# EAGLE library part ADSP_BF537 (library analog-devices-3)
ADSP-BF534-BSDL_br.txt.bsdl Auto generated by make-symbol-device-package-bsdl.ulp Rev. 8 Source: http://www.analog.com/UploadedFiles/Data_Sheets/90140778ADSP_BF536_7_prd.pdf Source2: BSDL_br.txt as Email: <adi-germany@analog.com>
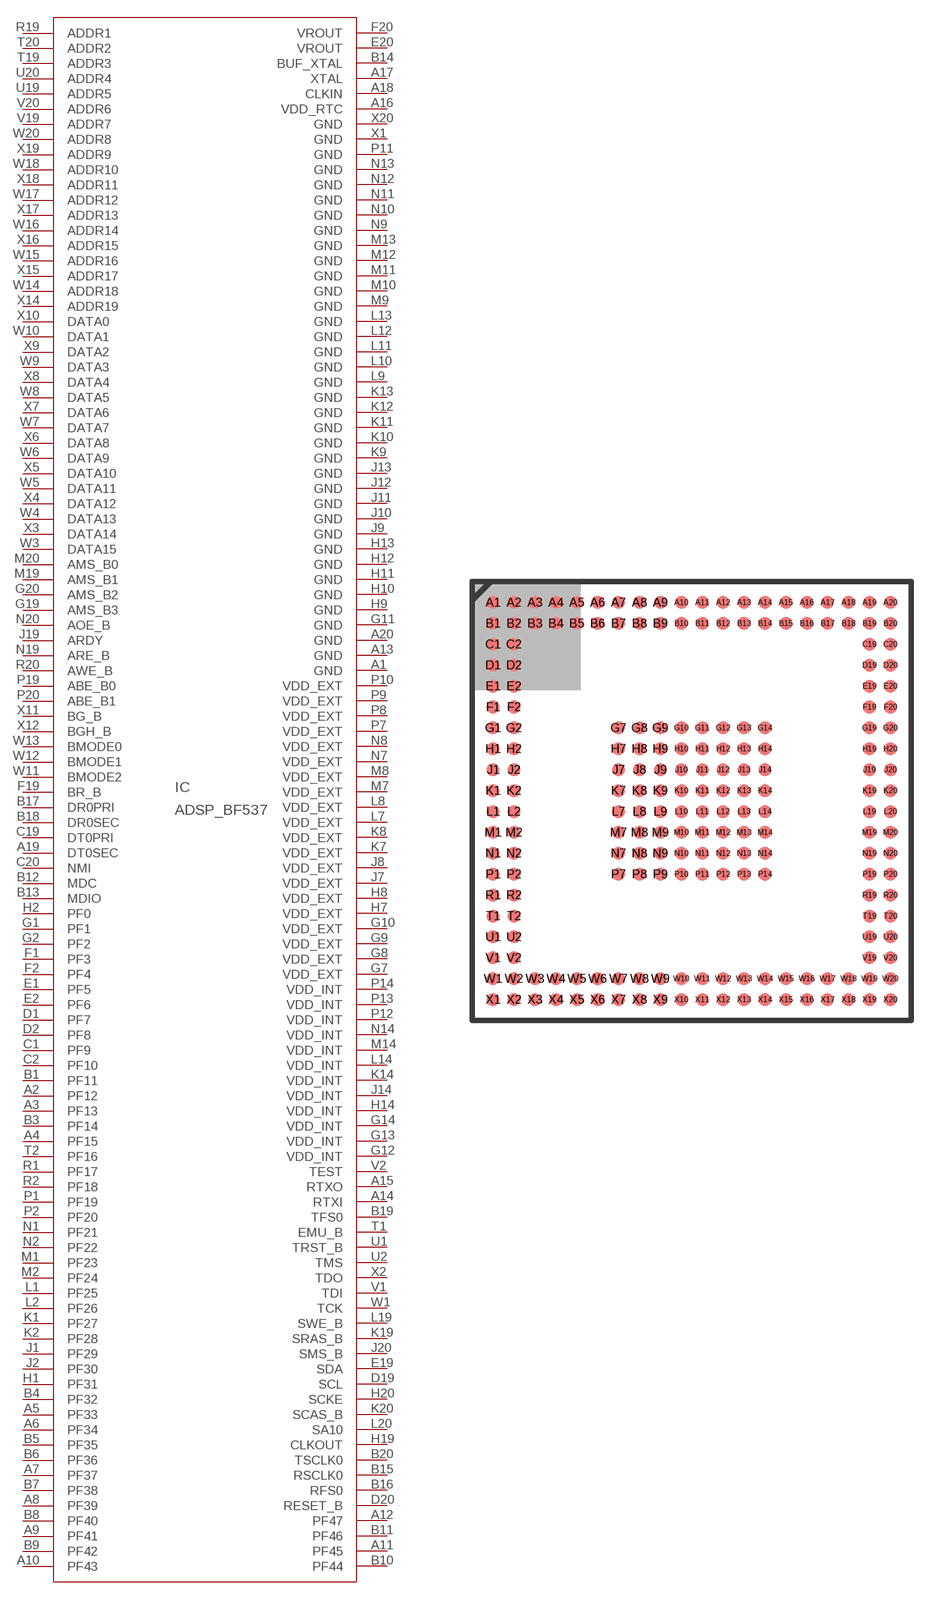
[diagram p31: symbol with the pads of BGA_208; footprint BGA_208]

Designator prefix IC

## ADSP_BF537  [BGA_208]
A1  GND  pwr
A2  PF12
A3  PF13
A4  PF15
A5  PF33
A6  PF34
A7  PF37
A8  PF39
A9  PF41
A10  PF43
A11  PF45
A12  PF47
A13  GND  pwr
A14  RTXI  pwr
A15  RTXO  pwr
A16  VDD_RTC  pwr
A17  XTAL  pwr
A18  CLKIN  pwr
A19  DT0SEC
A20  GND  pwr
B1  PF11
B3  PF14
B4  PF32
B5  PF35
B6  PF36
B7  PF38
B8  PF40
B9  PF42
B10  PF44
B11  PF46
B12  MDC
B13  MDIO
B14  BUF_XTAL  pwr
B15  RSCLK0
B16  RFS0
B17  DR0PRI
B18  DR0SEC
B19  TFS0
B20  TSCLK0
C1  PF9
C2  PF10
C19  DT0PRI
C20  NMI  in
D1  PF7
D2  PF8
D19  SCL
D20  RESET_B  in
E1  PF5
E2  PF6
E19  SDA
E20  VROUT  pwr
F1  PF3
F2  PF4
F19  BR_B  in
F20  VROUT  pwr
G1  PF1
G2  PF2
G7  VDD_EXT  pwr
G8  VDD_EXT  pwr
G9  VDD_EXT  pwr
G10  VDD_EXT  pwr
G11  GND  pwr
G12  VDD_INT  pwr
G13  VDD_INT  pwr
G14  VDD_INT  pwr
G19  AMS_B3  out
G20  AMS_B2  out
H1  PF31
H2  PF0
H7  VDD_EXT  pwr
H8  VDD_EXT  pwr
H9  GND  pwr
H10  GND  pwr
H11  GND  pwr
H12  GND  pwr
H13  GND  pwr
H14  VDD_INT  pwr
H19  CLKOUT  out
H20  SCKE  out
J1  PF29
J2  PF30
J7  VDD_EXT  pwr
J8  VDD_EXT  pwr
J9  GND  pwr
J10  GND  pwr
J11  GND  pwr
J12  GND  pwr
J13  GND  pwr
J14  VDD_INT  pwr
J19  ARDY  in
J20  SMS_B  out
K1  PF27
K2  PF28
K7  VDD_EXT  pwr
K8  VDD_EXT  pwr
K9  GND  pwr
K10  GND  pwr
K11  GND  pwr
K12  GND  pwr
K13  GND  pwr
K14  VDD_INT  pwr
K19  SRAS_B  out
K20  SCAS_B  out
L1  PF25
L2  PF26
L7  VDD_EXT  pwr
L8  VDD_EXT  pwr
L9  GND  pwr
L10  GND  pwr
L11  GND  pwr
L12  GND  pwr
L13  GND  pwr
L14  VDD_INT  pwr
L19  SWE_B  out
L20  SA10  out
M1  PF23
M2  PF24
M7  VDD_EXT  pwr
M8  VDD_EXT  pwr
M9  GND  pwr
M10  GND  pwr
M11  GND  pwr
M12  GND  pwr
M13  GND  pwr
M14  VDD_INT  pwr
M19  AMS_B1  out
M20  AMS_B0  out
N1  PF21
N2  PF22
N7  VDD_EXT  pwr
N8  VDD_EXT  pwr
N9  GND  pwr
N10  GND  pwr
N11  GND  pwr
N12  GND  pwr
N13  GND  pwr
N14  VDD_INT  pwr
N19  ARE_B  out
N20  AOE_B  out
P1  PF19
P2  PF20
P7  VDD_EXT  pwr
P8  VDD_EXT  pwr
P9  VDD_EXT  pwr
P10  VDD_EXT  pwr
P11  GND  pwr
P12  VDD_INT  pwr
P13  VDD_INT  pwr
P14  VDD_INT  pwr
P19  ABE_B0  out
P20  ABE_B1  out
R1  PF17
R2  PF18
R19  ADDR1  out
R20  AWE_B  out
T1  EMU_B  pwr
T2  PF16
T19  ADDR3  out
T20  ADDR2  out
U1  TRST_B  in
U2  TMS  in
U19  ADDR5  out
U20  ADDR4  out
V1  TDI  in
V2  TEST  in
V19  ADDR7  out
V20  ADDR6  out
W1  TCK  in
W3  DATA15
W4  DATA13
W5  DATA11
W6  DATA9
W7  DATA7
W8  DATA5
W9  DATA3
W10  DATA1
W11  BMODE2  in
W12  BMODE1  in
W13  BMODE0  in
W14  ADDR18  out
W15  ADDR16  out
W16  ADDR14  out
W17  ADDR12  out
W18  ADDR10  out
W20  ADDR8  out
X1  GND  pwr
X2  TDO  out
X3  DATA14
X4  DATA12
X5  DATA10
X6  DATA8
X7  DATA6
X8  DATA4
X9  DATA2
X10  DATA0
X11  BG_B  hiz
X12  BGH_B  hiz
X14  ADDR19  out
X15  ADDR17  out
X16  ADDR15  out
X17  ADDR13  out
X18  ADDR11  out
X19  ADDR9  out
X20  GND  pwr

## Footprint BGA_208 (pad centres in mm)
208-Ball Sparse Mini-BGA Auto generated by make-symbol-device-package-bsdl.ulp Rev. 8 Source: http://www.analog.com/UploadedFiles/Data_Sheets/90140778ADSP_BF536_7_prd.pdf Source2: BSDL_br.txt as Email: <adi-germany@analog.com>
smd 0.5 x 0.5: A1 -7.6,7.6; A2 -6.8,7.6; A3 -6,7.6; A4 -5.2,7.6; A5 -4.4,7.6; A6 -3.6,7.6; A7 -2.8,7.6; A8 -2,7.6; A9 -1.2,7.6; A10 -0.4,7.6; A11 0.4,7.6; A12 1.2,7.6; A13 2,7.6; A14 2.8,7.6; A15 3.6,7.6; A16 4.4,7.6; A17 5.2,7.6; A18 6,7.6; A19 6.8,7.6; A20 7.6,7.6; B1 -7.6,6.8; B2 -6.8,6.8; B3 -6,6.8; B4 -5.2,6.8; B5 -4.4,6.8; B6 -3.6,6.8; B7 -2.8,6.8; B8 -2,6.8; B9 -1.2,6.8; B10 -0.4,6.8; B11 0.4,6.8; B12 1.2,6.8; B13 2,6.8; B14 2.8,6.8; B15 3.6,6.8; B16 4.4,6.8; B17 5.2,6.8; B18 6,6.8; B19 6.8,6.8; B20 7.6,6.8; C1 -7.6,6; C2 -6.8,6; C19 6.8,6; C20 7.6,6; D1 -7.6,5.2; D2 -6.8,5.2; D19 6.8,5.2; D20 7.6,5.2; E1 -7.6,4.4; E2 -6.8,4.4; E19 6.8,4.4; E20 7.6,4.4; F1 -7.6,3.6; F2 -6.8,3.6; F19 6.8,3.6; F20 7.6,3.6; G1 -7.6,2.8; G2 -6.8,2.8; G7 -2.8,2.8; G8 -2,2.8; G9 -1.2,2.8; G10 -0.4,2.8; G11 0.4,2.8; G12 1.2,2.8; G13 2,2.8; G14 2.8,2.8; G19 6.8,2.8; G20 7.6,2.8; H1 -7.6,2; H2 -6.8,2; H7 -2.8,2; H8 -2,2; H9 -1.2,2; H10 -0.4,2; H11 0.4,2; H12 1.2,2; H13 2,2; H14 2.8,2; H19 6.8,2; H20 7.6,2; J1 -7.6,1.2; J2 -6.8,1.2; J7 -2.8,1.2; J8 -2,1.2; J9 -1.2,1.2; J10 -0.4,1.2; J11 0.4,1.2; J12 1.2,1.2; J13 2,1.2; J14 2.8,1.2; J19 6.8,1.2; J20 7.6,1.2; K1 -7.6,0.4; K2 -6.8,0.4; K7 -2.8,0.4; K8 -2,0.4; K9 -1.2,0.4; K10 -0.4,0.4; K11 0.4,0.4; K12 1.2,0.4; K13 2,0.4; K14 2.8,0.4; K19 6.8,0.4; K20 7.6,0.4; L1 -7.6,-0.4; L2 -6.8,-0.4; L7 -2.8,-0.4; L8 -2,-0.4; L9 -1.2,-0.4; L10 -0.4,-0.4; L11 0.4,-0.4; L12 1.2,-0.4; L13 2,-0.4; L14 2.8,-0.4; L19 6.8,-0.4; L20 7.6,-0.4; M1 -7.6,-1.2; M2 -6.8,-1.2; M7 -2.8,-1.2; M8 -2,-1.2; M9 -1.2,-1.2; M10 -0.4,-1.2; M11 0.4,-1.2; M12 1.2,-1.2; M13 2,-1.2; M14 2.8,-1.2; M19 6.8,-1.2; M20 7.6,-1.2; N1 -7.6,-2; N2 -6.8,-2; N7 -2.8,-2; N8 -2,-2; N9 -1.2,-2; N10 -0.4,-2; N11 0.4,-2; N12 1.2,-2; N13 2,-2; N14 2.8,-2; N19 6.8,-2; N20 7.6,-2; P1 -7.6,-2.8; P2 -6.8,-2.8; P7 -2.8,-2.8; P8 -2,-2.8; P9 -1.2,-2.8; P10 -0.4,-2.8; P11 0.4,-2.8; P12 1.2,-2.8; P13 2,-2.8; P14 2.8,-2.8; P19 6.8,-2.8; P20 7.6,-2.8; R1 -7.6,-3.6; R2 -6.8,-3.6; R19 6.8,-3.6; R20 7.6,-3.6; T1 -7.6,-4.4; T2 -6.8,-4.4; T19 6.8,-4.4; T20 7.6,-4.4; U1 -7.6,-5.2; U2 -6.8,-5.2; U19 6.8,-5.2; U20 7.6,-5.2; V1 -7.6,-6; V2 -6.8,-6; V19 6.8,-6; V20 7.6,-6; W1 -7.6,-6.8; W2 -6.8,-6.8; W3 -6,-6.8; W4 -5.2,-6.8; W5 -4.4,-6.8; W6 -3.6,-6.8; W7 -2.8,-6.8; W8 -2,-6.8; W9 -1.2,-6.8; W10 -0.4,-6.8; W11 0.4,-6.8; W12 1.2,-6.8; W13 2,-6.8; W14 2.8,-6.8; W15 3.6,-6.8; W16 4.4,-6.8; W17 5.2,-6.8; W18 6,-6.8; W19 6.8,-6.8; W20 7.6,-6.8; X1 -7.6,-7.6; X2 -6.8,-7.6; X3 -6,-7.6; X4 -5.2,-7.6; X5 -4.4,-7.6; X6 -3.6,-7.6; X7 -2.8,-7.6; X8 -2,-7.6; X9 -1.2,-7.6; X10 -0.4,-7.6; X11 0.4,-7.6; X12 1.2,-7.6; X13 2,-7.6; X14 2.8,-7.6; X15 3.6,-7.6; X16 4.4,-7.6; X17 5.2,-7.6; X18 6,-7.6; X19 6.8,-7.6; X20 7.6,-7.6